# Altium schematic symbol library lx-lcbst.SchLib: 1 symbol
Pins are listed as number, name and electrical type; pins without a type are passive.

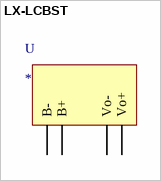
[diagram p0: symbol LX-LCBST]

## LX-LCBST
designator U
pins: ?1 B-, ?2 B+, ?3 Vo-, ?4 Vo+